# Altium schematic symbol library STM Controllers.SchLib: 8 symbols
Pins are listed as number, name and electrical type; pins without a type are passive.

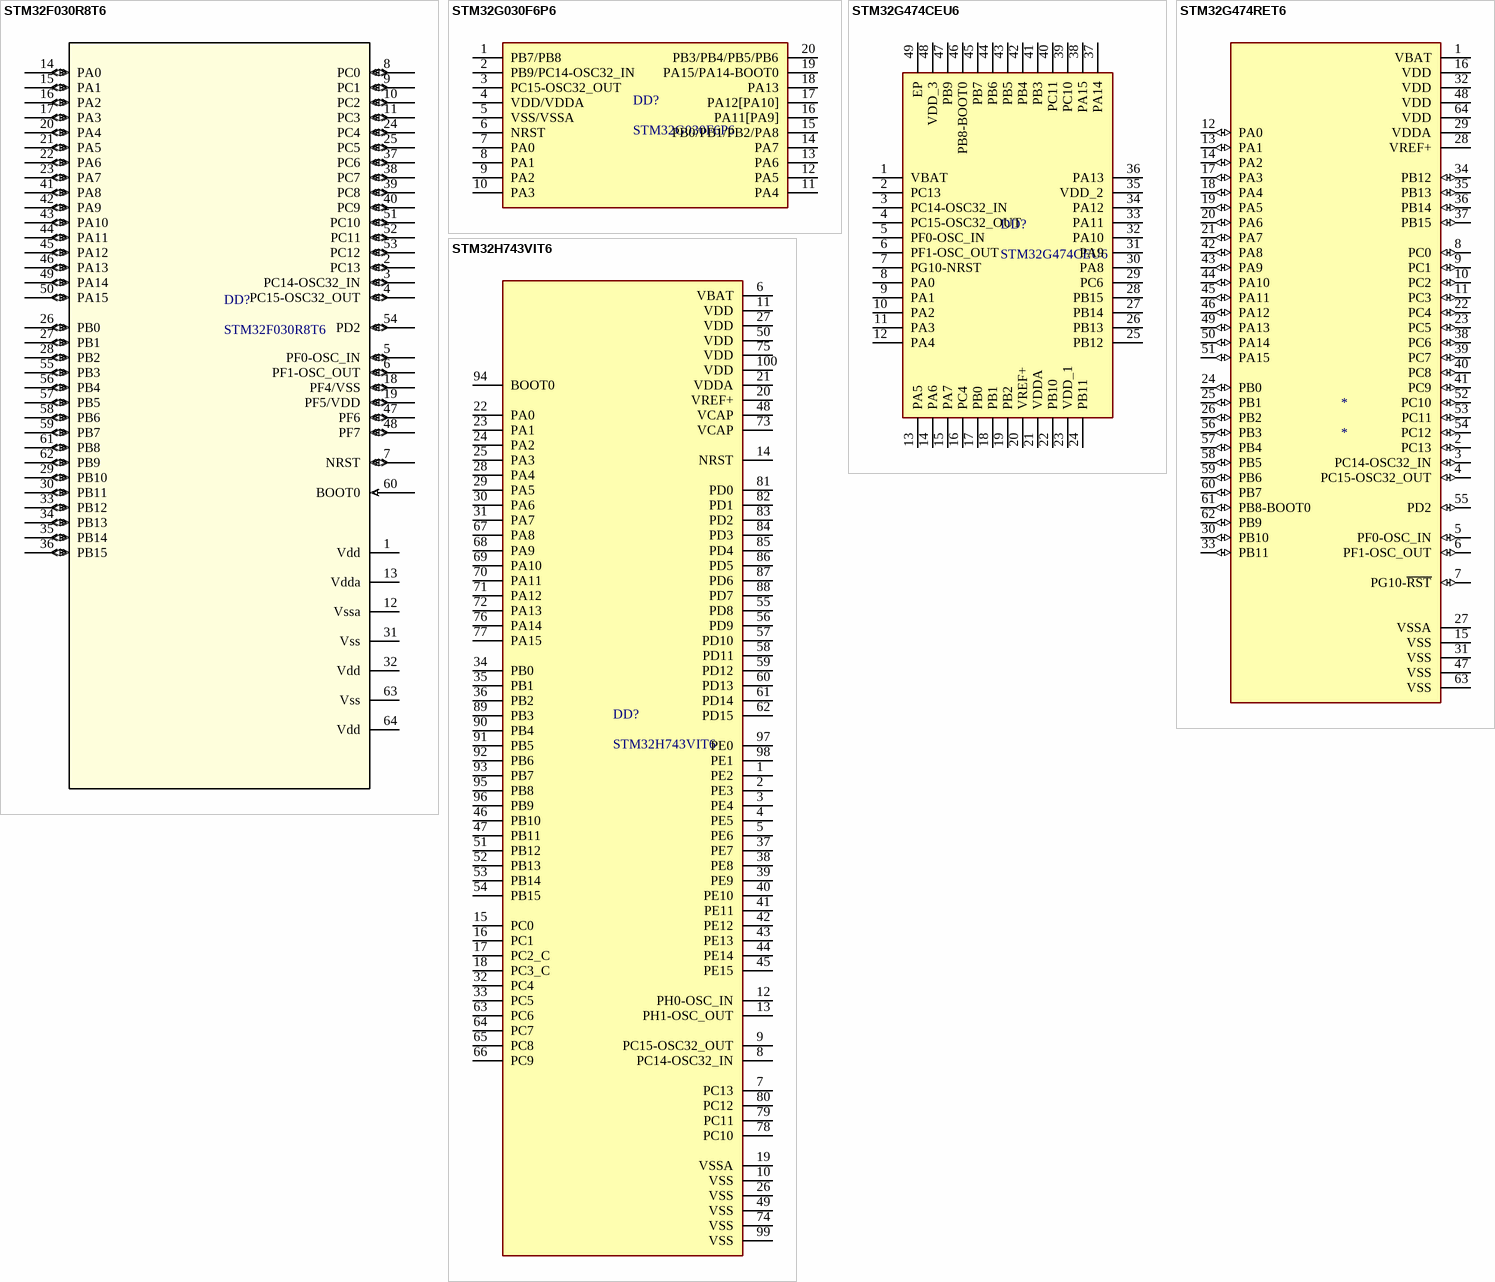
[diagram p0: symbols STM32F030R8T6 to STM32H743VIT6]

## STM32F030R8T6
designator DD?
STM32F030R8T6, LQFP64
footprint LQFP64
pins: 1 Vdd (power), 2 PC13 (io), 3 PC14-OSC32_IN (io), 4 PC15-OSC32_OUT (io), 5 PF0-OSC_IN (io), 6 PF1-OSC_OUT (io), 7 NRST (io), 8 PC0 (io), 9 PC1 (io), 10 PC2 (io), 11 PC3 (io), 12 Vssa (power), 13 Vdda (power), 14 PA0 (io), 15 PA1 (io), 16 PA2 (io), 17 PA3 (io), 18 PF4/VSS (io), 19 PF5/VDD (io), 20 PA4 (io), 21 PA5 (io), 22 PA6 (io), 23 PA7 (io), 24 PC4 (io), 25 PC5 (io), 26 PB0 (io), 27 PB1 (io), 28 PB2 (io), 29 PB10 (io), 30 PB11 (io), 31 Vss (power), 32 Vdd (power), 33 PB12 (io), 34 PB13 (io), 35 PB14 (io), 36 PB15 (io), 37 PC6 (io), 38 PC7 (io), 39 PC8 (io), 40 PC9 (io), 41 PA8 (io), 42 PA9 (io), 43 PA10 (io), 44 PA11 (io), 45 PA12 (io), 46 PA13 (io), 47 PF6 (io), 48 PF7 (io), 49 PA14 (io), 50 PA15 (io), 51 PC10 (io), 52 PC11 (io), 53 PC12 (io), 54 PD2 (io), 55 PB3 (io), 56 PB4 (io), 57 PB5 (io), 58 PB6 (io), 59 PB7 (io), 60 BOOT0 (in), 61 PB8 (io), 62 PB9 (io), 63 Vss (power), 64 Vdd (power)

## STM32G030F6P6
designator DD?
footprint SOP65P640X120-20N
pins: 1 PB7/PB8, 2 PB9/PC14-OSC32_IN, 3 PC15-OSC32_OUT, 4 VDD/VDDA, 5 VSS/VSSA, 6 NRST, 7 PA0, 8 PA1, 9 PA2, 10 PA3, 11 PA4, 12 PA5, 13 PA6, 14 PA7, 15 PB0/PB1/PB2/PA8, 16 PA11[PA9], 17 PA12[PA10], 18 PA13, 19 PA15/PA14-BOOT0, 20 PB3/PB4/PB5/PB6

## STM32G474CEU6
designator DD?
footprint QFN50P700X700X60-49N-D
pins: 1 VBAT, 2 PC13, 3 PC14-OSC32_IN, 4 PC15-OSC32_OUT, 5 PF0-OSC_IN, 6 PF1-OSC_OUT, 7 PG10-NRST, 8 PA0, 9 PA1, 10 PA2, 11 PA3, 12 PA4, 13 PA5, 14 PA6, 15 PA7, 16 PC4, 17 PB0, 18 PB1, 19 PB2, 20 VREF+, 21 VDDA, 22 PB10, 23 VDD_1, 24 PB11, 25 PB12, 26 PB13, 27 PB14, 28 PB15, 29 PC6, 30 PA8, 31 PA9, 32 PA10, 33 PA11, 34 PA12, 35 VDD_2, 36 PA13, 37 PA14, 38 PA15, 39 PC10, 40 PC11, 41 PB3, 42 PB4, 43 PB5, 44 PB6, 45 PB7, 46 PB8-BOOT0, 47 PB9, 48 VDD_3, 49 EP

## STM32G474RET6
designator *
footprint STM32G474RET6 (LQFP64)
pins: 1 VBAT (power), 2 PC13 (io), 3 PC14-OSC32_IN (io), 4 PC15-OSC32_OUT (io), 5 PF0-OSC_IN (io), 6 PF1-OSC_OUT (io), 7 PG10-~{RST} (io), 8 PC0 (io), 9 PC1 (io), 10 PC2 (io), 11 PC3 (io), 12 PA0 (io), 13 PA1 (io), 14 PA2 (io), 15 VSS (power), 16 VDD (power), 17 PA3 (io), 18 PA4 (io), 19 PA5 (io), 20 PA6 (io), 21 PA7 (io), 22 PC4 (io), 23 PC5 (io), 24 PB0 (io), 25 PB1 (io), 26 PB2 (io), 27 VSSA (power), 28 VREF+ (power), 29 VDDA (power), 30 PB10 (io), 31 VSS (power), 32 VDD (power), 33 PB11 (io), 34 PB12 (io), 35 PB13 (io), 36 PB14 (io), 37 PB15 (io), 38 PC6 (io), 39 PC7 (io), 40 PC8 (io), 41 PC9 (io), 42 PA8 (io), 43 PA9 (io), 44 PA10 (io), 45 PA11 (io), 46 PA12 (io), 47 VSS (power), 48 VDD (power), 49 PA13 (io), 50 PA14 (io), 51 PA15 (io), 52 PC10 (io), 53 PC11 (io), 54 PC12 (io), 55 PD2 (io), 56 PB3 (io), 57 PB4 (io), 58 PB5 (io), 59 PB6 (io), 60 PB7 (io), 61 PB8-BOOT0 (io), 62 PB9 (io), 63 VSS (power), 64 VDD (power)

## STM32H743VIT6
designator DD?
footprint QFP501600X1600x160-100N
pins: 1 PE2, 2 PE3, 3 PE4, 4 PE5, 5 PE6, 6 VBAT (power), 7 PC13, 8 PC14-OSC32_IN, 9 PC15-OSC32_OUT, 10 VSS (power), 11 VDD (power), 12 PH0-OSC_IN, 13 PH1-OSC_OUT, 14 NRST, 15 PC0, 16 PC1, 17 PC2_C, 18 PC3_C, 19 VSSA (power), 20 VREF+ (power), 21 VDDA (power), 22 PA0, 23 PA1, 24 PA2, 25 PA3, 26 VSS (power), 27 VDD (power), 28 PA4, 29 PA5, 30 PA6, 31 PA7, 32 PC4, 33 PC5, 34 PB0, 35 PB1, 36 PB2, 37 PE7, 38 PE8, 39 PE9, 40 PE10, 41 PE11, 42 PE12, 43 PE13, 44 PE14, 45 PE15, 46 PB10, 47 PB11, 48 VCAP (power), 49 VSS (power), 50 VDD (power), 51 PB12, 52 PB13, 53 PB14, 54 PB15, 55 PD8, 56 PD9, 57 PD10, 58 PD11, 59 PD12, 60 PD13, 61 PD14, 62 PD15, 63 PC6, 64 PC7, 65 PC8, 66 PC9, 67 PA8, 68 PA9, 69 PA10, 70 PA11, 71 PA12, 72 PA13, 73 VCAP (power), 74 VSS (power), 75 VDD (power), 76 PA14, 77 PA15, 78 PC10, 79 PC11, 80 PC12, 81 PD0, 82 PD1, 83 PD2, 84 PD3, 85 PD4, 86 PD5, 87 PD6, 88 PD7, 89 PB3, 90 PB4, 91 PB5, 92 PB6, 93 PB7, 94 BOOT0, 95 PB8, 96 PB9, 97 PE0, 98 PE1, 99 VSS (power), 100 VDD (power)

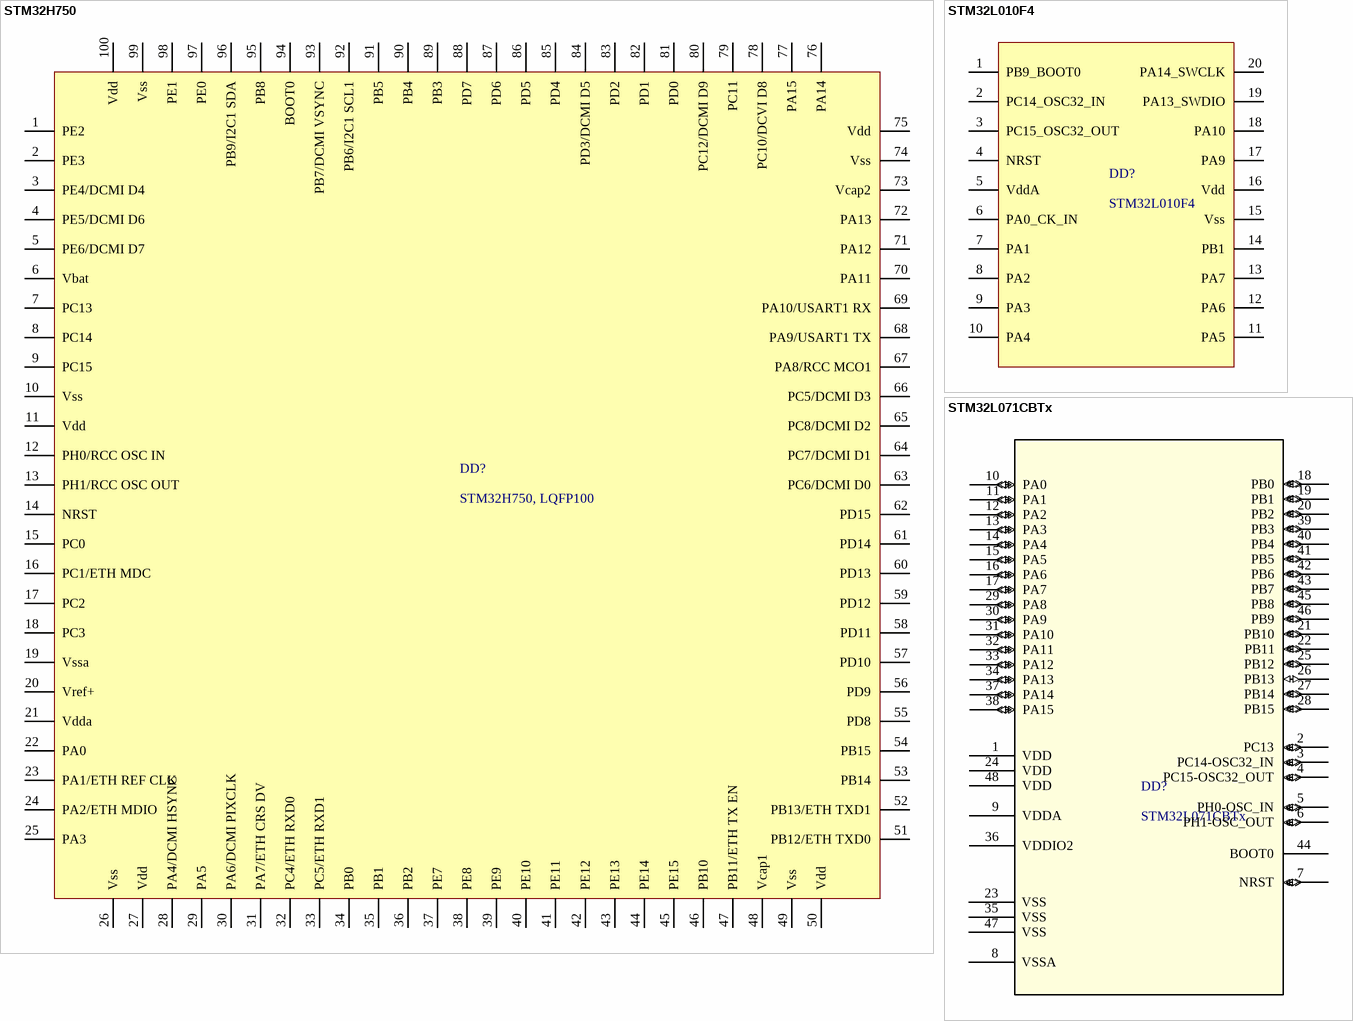
[diagram p1: symbols STM32H750 to STM32L071CBTx]

## STM32H750
designator DD?, comment STM32H750, LQFP100
footprint QFP501600X1600x160-100N
pins: 1 PE2, 2 PE3, 3 PE4/DCMI D4, 4 PE5/DCMI D6, 5 PE6/DCMI D7, 6 Vbat, 7 PC13, 8 PC14, 9 PC15, 10 Vss, 11 Vdd, 12 PH0/RCC OSC IN, 13 PH1/RCC OSC OUT, 14 NRST, 15 PC0, 16 PC1/ETH MDC, 17 PC2, 18 PC3, 19 Vssa, 20 Vref+, 21 Vdda, 22 PA0, 23 PA1/ETH REF CLK, 24 PA2/ETH MDIO, 25 PA3, 26 Vss, 27 Vdd, 28 PA4/DCMI HSYNC, 29 PA5, 30 PA6/DCMI PIXCLK, 31 PA7/ETH CRS DV, 32 PC4/ETH RXD0, 33 PC5/ETH RXD1, 34 PB0, 35 PB1, 36 PB2, 37 PE7, 38 PE8, 39 PE9, 40 PE10, 41 PE11, 42 PE12, 43 PE13, 44 PE14, 45 PE15, 46 PB10, 47 PB11/ETH TX EN, 48 Vcap1, 49 Vss, 50 Vdd, 51 PB12/ETH TXD0, 52 PB13/ETH TXD1, 53 PB14, 54 PB15, 55 PD8, 56 PD9, 57 PD10, 58 PD11, 59 PD12, 60 PD13, 61 PD14, 62 PD15, 63 PC6/DCMI D0, 64 PC7/DCMI D1, 65 PC8/DCMI D2, 66 PC5/DCMI D3, 67 PA8/RCC MCO1, 68 PA9/USART1 TX, 69 PA10/USART1 RX, 70 PA11, 71 PA12, 72 PA13, 73 Vcap2, 74 Vss, 75 Vdd, 76 PA14, 77 PA15, 78 PC10/DCVI D8, 79 PC11, 80 PC12/DCMI D9, 81 PD0, 82 PD1, 83 PD2, 84 PD3/DCMI D5, 85 PD4, 86 PD5, 87 PD6, 88 PD7, 89 PB3, 90 PB4, 91 PB5, 92 PB6/I2C1 SCL1, 93 PB7/DCMI VSYNC, 94 BOOT0, 95 PB8, 96 PB9/I2C1 SDA, 97 PE0, 98 PE1, 99 Vss, 100 Vdd

## STM32L010F4
designator DD?
footprint STM32L010F4P6 TSSOP20
pins: 1 PB9_BOOT0, 2 PC14_OSC32_IN, 3 PC15_OSC32_OUT, 4 NRST, 5 VddA, 6 PA0_CK_IN, 7 PA1, 8 PA2, 9 PA3, 10 PA4, 11 PA5, 12 PA6, 13 PA7, 14 PB1, 15 Vss, 16 Vdd, 17 PA9, 18 PA10, 19 PA13_SWDIO, 20 PA14_SWCLK

## STM32L071CBTx
designator DD?
footprint STM32L071CBTx (LQFP48)
pins: 1 VDD (power), 2 PC13 (io), 3 PC14-OSC32_IN (io), 4 PC15-OSC32_OUT (io), 5 PH0-OSC_IN (io), 6 PH1-OSC_OUT (io), 7 NRST (io), 8 VSSA (power), 9 VDDA (power), 10 PA0 (io), 11 PA1 (io), 12 PA2 (io), 13 PA3 (io), 14 PA4 (io), 15 PA5 (io), 16 PA6 (io), 17 PA7 (io), 18 PB0 (io), 19 PB1 (io), 20 PB2 (io), 21 PB10 (io), 22 PB11 (io), 23 VSS (power), 24 VDD (power), 25 PB12 (io), 26 PB13 (io), 27 PB14 (io), 28 PB15 (io), 29 PA8 (io), 30 PA9 (io), 31 PA10 (io), 32 PA11 (io), 33 PA12 (io), 34 PA13 (io), 35 VSS (power), 36 VDDIO2 (power), 37 PA14 (io), 38 PA15 (io), 39 PB3 (io), 40 PB4 (io), 41 PB5 (io), 42 PB6 (io), 43 PB7 (io), 44 BOOT0, 45 PB8 (io), 46 PB9 (io), 47 VSS (power), 48 VDD (power)